# EAGLE library part BME280CON (library APC_arm_arduinoboard)
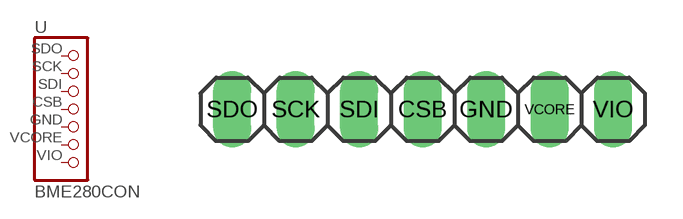
[diagram p1: symbol with the pads of BME280CON; footprint BME280CON]

Designator prefix -

## BME280CON  [BME280CON]
CSB  CSB  pas
GND  GND  pas
SCK  SCK  pas
SDI  SDI  pas
SDO  SDO  pas
VCORE  VCORE  pas
VIO  VIO  pas

## Footprint BME280CON (pad centres in mm)
drill 1.016 long: CSB 0,0; GND 2.54,0; SCK -5.08,0; SDI -2.54,0; SDO -7.62,0; VCORE 5.08,0; VIO 7.62,0